# EAGLE library part CD4016BCM (library Fairchild_By_element14_Batch_1)
Quad Bilateral Switch
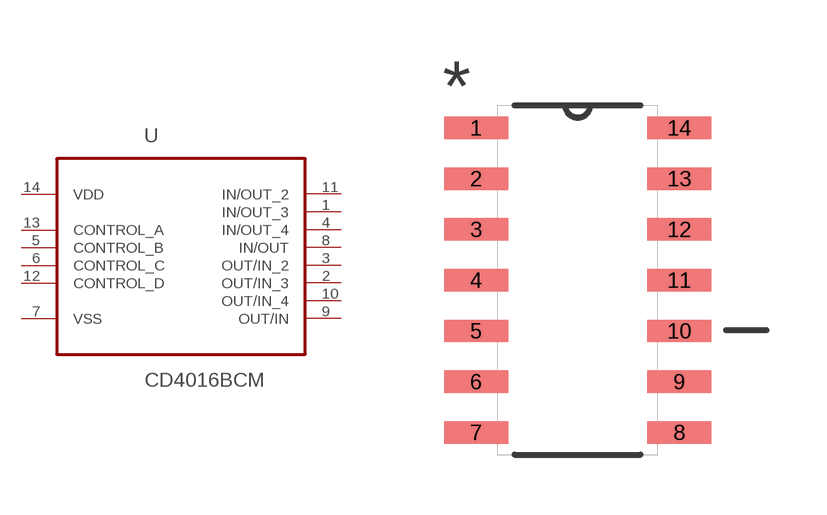
[diagram p151: symbol with the pads of SOIC127P600X175-14N; footprint SOIC127P600X175-14N]

Designator prefix U

## CD4016BCM (MPN: CD4016BCM; OC_FARNELL: 1014058; OC_NEWARK: 78K5867; PACKAGE: SOIC-14; SUPPLIER: Fairchild)  [SOIC127P600X175-14N]
1  IN/OUT_3
2  OUT/IN_3
3  OUT/IN_2
4  IN/OUT_4
5  CONTROL_B  in
6  CONTROL_C  in
7  VSS  pwr
8  IN/OUT
9  OUT/IN
10  OUT/IN_4
11  IN/OUT_2
12  CONTROL_D  in
13  CONTROL_A  in
14  VDD  pwr

## Footprint SOIC127P600X175-14N (pad centres in mm)
smd 1.6 x 0.559: 1 -2.54,3.81; 2 -2.54,2.54; 3 -2.54,1.27; 4 -2.54,0; 5 -2.54,-1.27; 6 -2.54,-2.54; 7 -2.54,-3.81; 8 2.54,-3.81; 9 2.54,-2.54; 10 2.54,-1.27; 11 2.54,0; 12 2.54,1.27; 13 2.54,2.54; 14 2.54,3.81